# EAGLE library part TPS6735IDR (library SamacSys_Parts)
FIXED Negative 5-V 200-mA Inverting DC/DC Converter Source: Datasheet <http://www.ti.com/lit/gpn/tps6735>
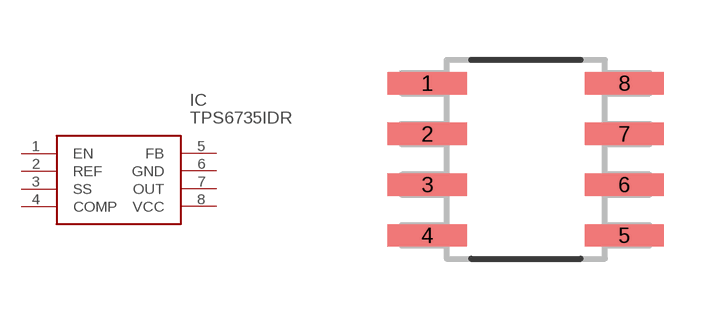
[diagram p6: symbol with the pads of SOIC127P600X175-8N; footprint SOIC127P600X175-8N]

Designator prefix IC

## TPS6735IDR (DESCRIPTION: FIXED Negative 5-V 200-mA Inverting DC/DC Converter; HEIGHT: mm; MANUFACTURER_NAME: Texas Instruments; MANUFACTURER_PART_NUMBER: TPS6735IDR; MOUSER_PART_NUMBER: 595-TPS6735IDR; MOUSER_PRICE-STOCK: https://www.mouser.com/Search/Refine.aspx?Keyword=595-TPS6735IDR)  [SOIC127P600X175-8N]
1  EN
2  REF
3  SS
4  COMP
5  FB
6  GND
7  OUT
8  VCC

## Footprint SOIC127P600X175-8N (pad centres in mm)
SOIC127P600X175-8N
smd 1.981 x 0.559: 1 -2.464,1.905; 2 -2.464,0.635; 3 -2.464,-0.635; 4 -2.464,-1.905; 5 2.464,-1.905; 6 2.464,-0.635; 7 2.464,0.635; 8 2.464,1.905